# EAGLE library part CP2104- (library Domino)
Single-Chip USB-to-UART Bridge
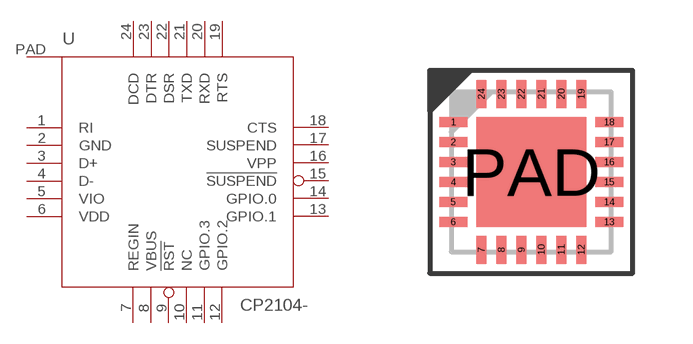
[diagram p9: symbol with the pads of QFN-25_4X4; footprint QFN-25_4X4]

Designator prefix U

## CP2104-F03-GM  [QFN-25_4X4]
1  RI  in
2  GND  pwr
3  D+  pas
4  D-  pas
5  VIO  pwr
6  VDD  sup
7  REGIN  pwr
8  VBUS  in
9  !RST
10  NC  nc
11  GPIO.3
12  GPIO.2
13  GPIO.1
14  GPIO.0
15  !SUSPEND  out
16  VPP  pas
17  SUSPEND  out
18  CTS  in
19  RTS  out
20  RXD  in
21  TXD  out
22  DSR  in
23  DTR  out
24  DCD  in
PAD  PAD  pwr

## Footprint QFN-25_4X4 (pad centres in mm)
Quad Flat No-Lead Package (QFN), 24 Pins, Exposed Pad, 4 x 4 Body
smd 0.7 x 0.25: 1 -1.95,1.25; 2 -1.95,0.75; 3 -1.95,0.25; 4 -1.95,-0.25; 5 -1.95,-0.75; 6 -1.95,-1.25; 13 1.95,-1.25; 14 1.95,-0.75; 15 1.95,-0.25; 16 1.95,0.25; 17 1.95,0.75; 18 1.95,1.25
smd 0.25 x 0.7: 7 -1.25,-1.95; 8 -0.75,-1.95; 9 -0.25,-1.95; 10 0.25,-1.95; 11 0.75,-1.95; 12 1.25,-1.95; 19 1.25,1.95; 20 0.75,1.95; 21 0.25,1.95; 22 -0.25,1.95; 23 -0.75,1.95; 24 -1.25,1.95
smd 2.75 x 2.75: PAD 0,0